# Altium schematic symbol library 1469TK025.SchLib: 1 symbol
Pins are listed as number, name and electrical type; pins without a type are passive.

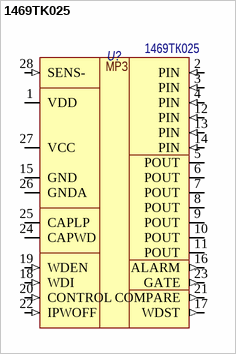
[diagram p0: symbol 1469TK025]

## 1469TK025
designator U?  Наименование: 1469ТК025  (hidden comment: 1469TK025)
Микросхема защиты от тиристорного эффекта; Потребление, Вт: 0.005; Назначение: Микросхема защиты от тиристорного эффекта; ComponentLink1Description: DataSheet; ComponentLink1URL: http://asic.ru/images/stories/prod/1469TK025.pdf
footprint 5123.28-1 (QFN, 28-Leads, Body 6,50x6,50mm, Pitch 0,70mm, IPC Medium Density)
pins: 1 VDD (power), 2 PIN (in), 3 PIN (in), 4 PIN (in), 5 POUT (power), 6 POUT (power), 7 POUT (power), 8 POUT (power), 9 POUT (power), 10 POUT (power), 11 POUT (power), 12 PIN (in), 13 PIN (in), 14 PIN (in), 15 GND (power), 16 ALARM (out), 17 WDST (out), 18 WDI (in), 19 WDEN (in), 20 CONTROL (in), 21 COMPARE (out), 22 IPWOFF (in), 23 GATE (out), 24 CAPWD, 25 CAPLP, 26 GNDA (power), 27 VCC (power), 28 SENS- (in)
text: МРЗ